# EAGLE library part ISO7021 (library jmolterLib)
Low Power Digital Isolater
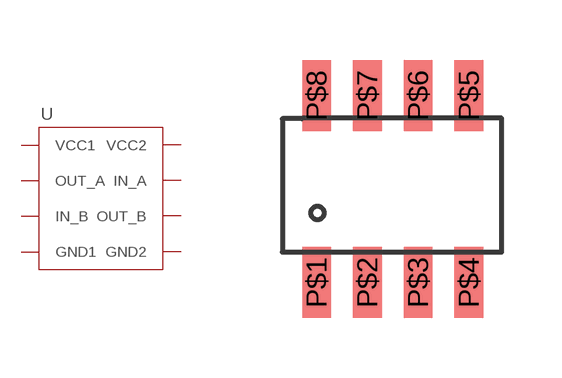
[diagram p4: symbol with the pads of 8-SOIC; footprint 8-SOIC]

Designator prefix -

## ISO7021  [8-SOIC]
P$1  VCC1
P$2  OUT_A
P$3  IN_B
P$4  GND1
P$5  GND2
P$6  OUT_B
P$7  IN_A
P$8  VCC2

## Footprint 8-SOIC (pad centres in mm)
smd 0.72 x 1.78: P$1 0.36,0.89; P$2 1.63,0.89; P$3 2.9,0.89; P$4 4.17,0.89; P$5 4.17,5.57; P$6 2.9,5.57; P$7 1.63,5.57; P$8 0.36,5.57